# EAGLE library part BL3208 (library mb3_integrated circuits)
2,048 stage BBD Obsoleted. These came in both 8-pin and 14-pin packages. CoolAudio version of the 3208A (8-pin version): http://smallbear-electronics.mybigcommerce.com/ic-v3208d/
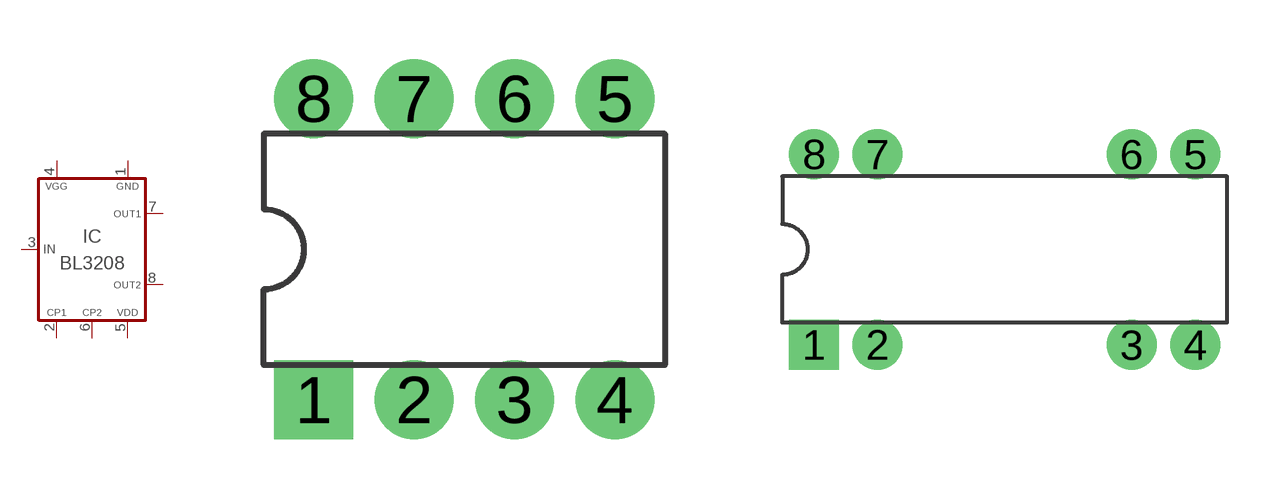
[diagram p3: symbol with the pads of DIP08; footprints DIP08, DIP14.2]

Designator prefix IC

## BL3208.A  [DIP08]
1  P$1
2  P$2
3  P$3
4  P$4
5  P$5
6  P$6
7  P$7
8  P$8

## BL3208.B  [DIP14.2]
1  P$1
2  P$6
3  P$7
4  P$8
5  P$5
6  P$2
7  P$3
8  P$4

## Footprint DIP08 (pad centres in mm)
Dual In Line Package
drill 1 pad 2 square: 1 -3.81,-3.81
drill 1 pad 2: 2 -1.27,-3.81; 3 1.27,-3.81; 4 3.81,-3.81; 5 3.81,3.81; 6 1.27,3.81; 7 -1.27,3.81; 8 -3.81,3.81

## Footprint DIP14.2 (pad centres in mm)
For BBD such as the MN3005 and MN3205
drill 1 pad 2 square: 1 -7.62,-3.81
drill 1 pad 2: 2 -5.08,-3.81; 3 5.08,-3.81; 4 7.62,-3.81; 5 7.62,3.81; 6 5.08,3.81; 7 -5.08,3.81; 8 -7.62,3.81